# EAGLE library part 436501009 (library 436501009)
Micro-Fit 3.0 Right-Angle Header, 3.00mm Pitch, Single Row, 10 Circuits, with PCB Press-fit Metal Retention Clip, Glow-Wire Capable, Black, Tape and Reel Source: Datasheet <https://www.molex.com/pdm_docs/sd/436500209_sd.pdf>
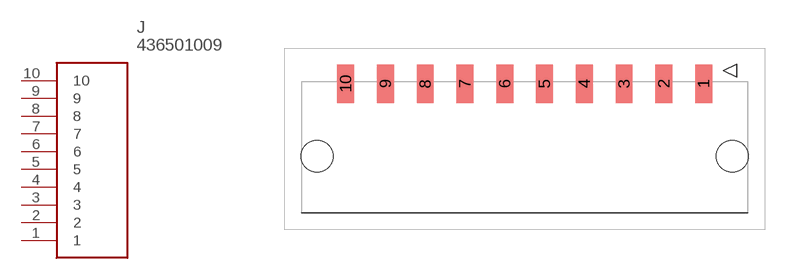
[diagram p0: symbol with the pads of 4365010YY_091011; footprint 4365010YY_091011]

Designator prefix J

## 436501009 (Description: Micro-Fit 3.0 Right-Angle Header, 3.00mm Pitch, Single Row, 10 Circuits, with PCB Press-fit Metal Retention Clip, Glow-Wire Capable, Black, Tape and Reel; Height: 5.57mm; Manufacturer_Name: Molex; Manufacturer_Part_Number: 436501009)  [4365010YY_091011]
1  1
2  2
3  3
4  4
5  5
6  6
7  7
8  8
9  9
10  10

## Footprint 4365010YY_091011 (pad centres in mm)
4365010YY_091011
smd 1.27 x 2.92: 1 13.5,0; 2 10.5,0; 3 7.5,0; 4 4.5,0; 5 1.5,0; 6 -1.5,0; 7 -4.5,0; 8 -7.5,0; 9 -10.5,0; 10 -13.5,0
hole 2.41 at 15.65,-5.47
hole 2.41 at -15.65,-5.47